# Altium footprint library Test_Points.PcbLib: 4 footprints
Each footprint in its own frame and in the unit in brackets; x right, y up, seen from the top. Pads: shape width x height; smd on the part's side, far side on the other; paste and mask are expansions set on the pad; w line width, h text height; cw(c..) or ccw(c..) is an arc to the next point about the centre after c.
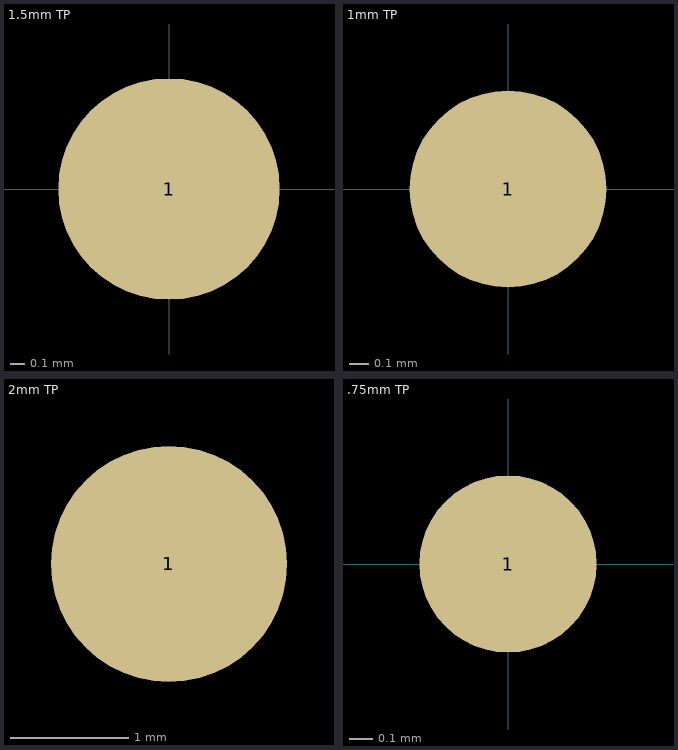
[diagram p0: the footprints below, top view; thin cyan lines are the x and y axes]

## 1.5mm TP [mm] "1.5mm Test Point"
pads (1):
  round 1.5 smd: 1(0,0)
Top Paste:
  circle w0.076: c0,0 r1.016

## 1mm TP [mm] "1mm Test Point"
pads (1):
  round 1 smd: 1(0,0)
Top Paste:
  circle w0.076: c0,0 r0.762

## 2mm TP [mm] "2mm Test Point"
pads (1):
  round 2 smd: 1(115.697,235.966)
Top Paste:
  circle w0.076: c115.697,235.966 r1.27

## .75mm TP [mm] ".75 mm Test Point"
pads (1):
  round 0.75 smd: 1(0,0)
Top Paste:
  circle w0.076: c0,0 r0.635